# EAGLE library part MC14012BDG (library On Semiconductor)
Dual 4-Input NAND Gates
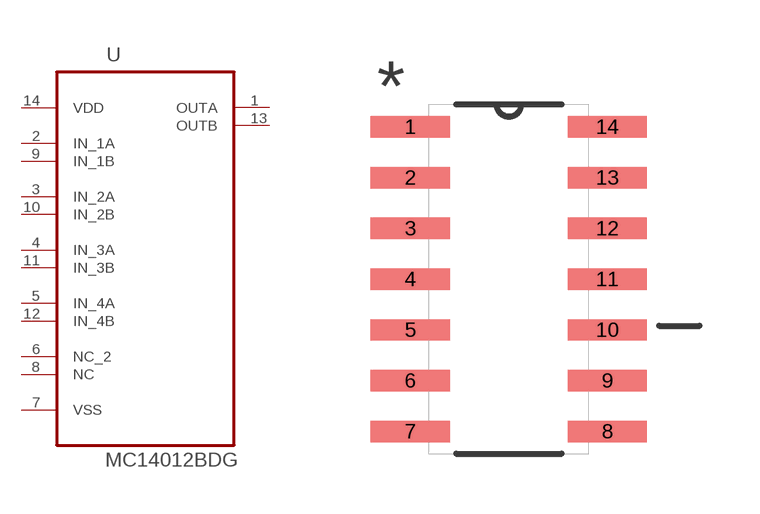
[diagram p202: symbol with the pads of SOIC127P600X175-14N; footprint SOIC127P600X175-14N]

Designator prefix U

## MC14012BDG (MPN: MC14012BDG; OC_FARNELL: 9664840; OC_NEWARK: 71J5454; PACKAGE: SOIC-14; SUPPLIER: ON SEMICONDUCTOR)  [SOIC127P600X175-14N]
1  OUTA  out
2  IN_1A  in
3  IN_2A  in
4  IN_3A  in
5  IN_4A  in
6  NC_2  in
7  VSS  pas
8  NC  in
9  IN_1B  in
10  IN_2B  in
11  IN_3B  in
12  IN_4B  in
13  OUTB  out
14  VDD  pwr

## Footprint SOIC127P600X175-14N (pad centres in mm)
smd 1.981 x 0.533: 1 -2.464,3.81; 2 -2.464,2.54; 3 -2.464,1.27; 4 -2.464,0; 5 -2.464,-1.27; 6 -2.464,-2.54; 7 -2.464,-3.81; 8 2.464,-3.81; 9 2.464,-2.54; 10 2.464,-1.27; 11 2.464,0; 12 2.464,1.27; 13 2.464,2.54; 14 2.464,3.81